# Altium integrated library AD7477ARTZ-500RL7.IntLib: 1 symbol
Pins are listed as number, name and electrical type; pins without a type are passive.

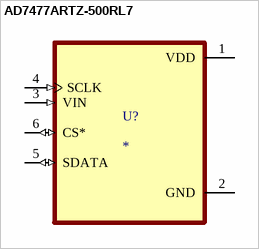
[diagram p0: symbol AD7477ARTZ-500RL7]

## AD7477ARTZ-500RL7
designator U?
MP: AD7477ARTZ-500RL7; Package: None; Price: None; Value: *; Availability: Unavailable
footprint SOT95P280X145-6N
pins: 1 VDD (power), 2 GND (power), 3 VIN (in), 4 SCLK (in), 5 SDATA (io), 6 CS* (io)